# Altium footprint library CONNECTOR.PcbLib: 181 footprints (part 1 of 12)
Each footprint in its own frame and in the unit in brackets; x right, y up, seen from the top. Pads: shape width x height; smd on the part's side, far side on the other; paste and mask are expansions set on the pad; w line width, h text height; cw(c..) or ccw(c..) is an arc to the next point about the centre after c.
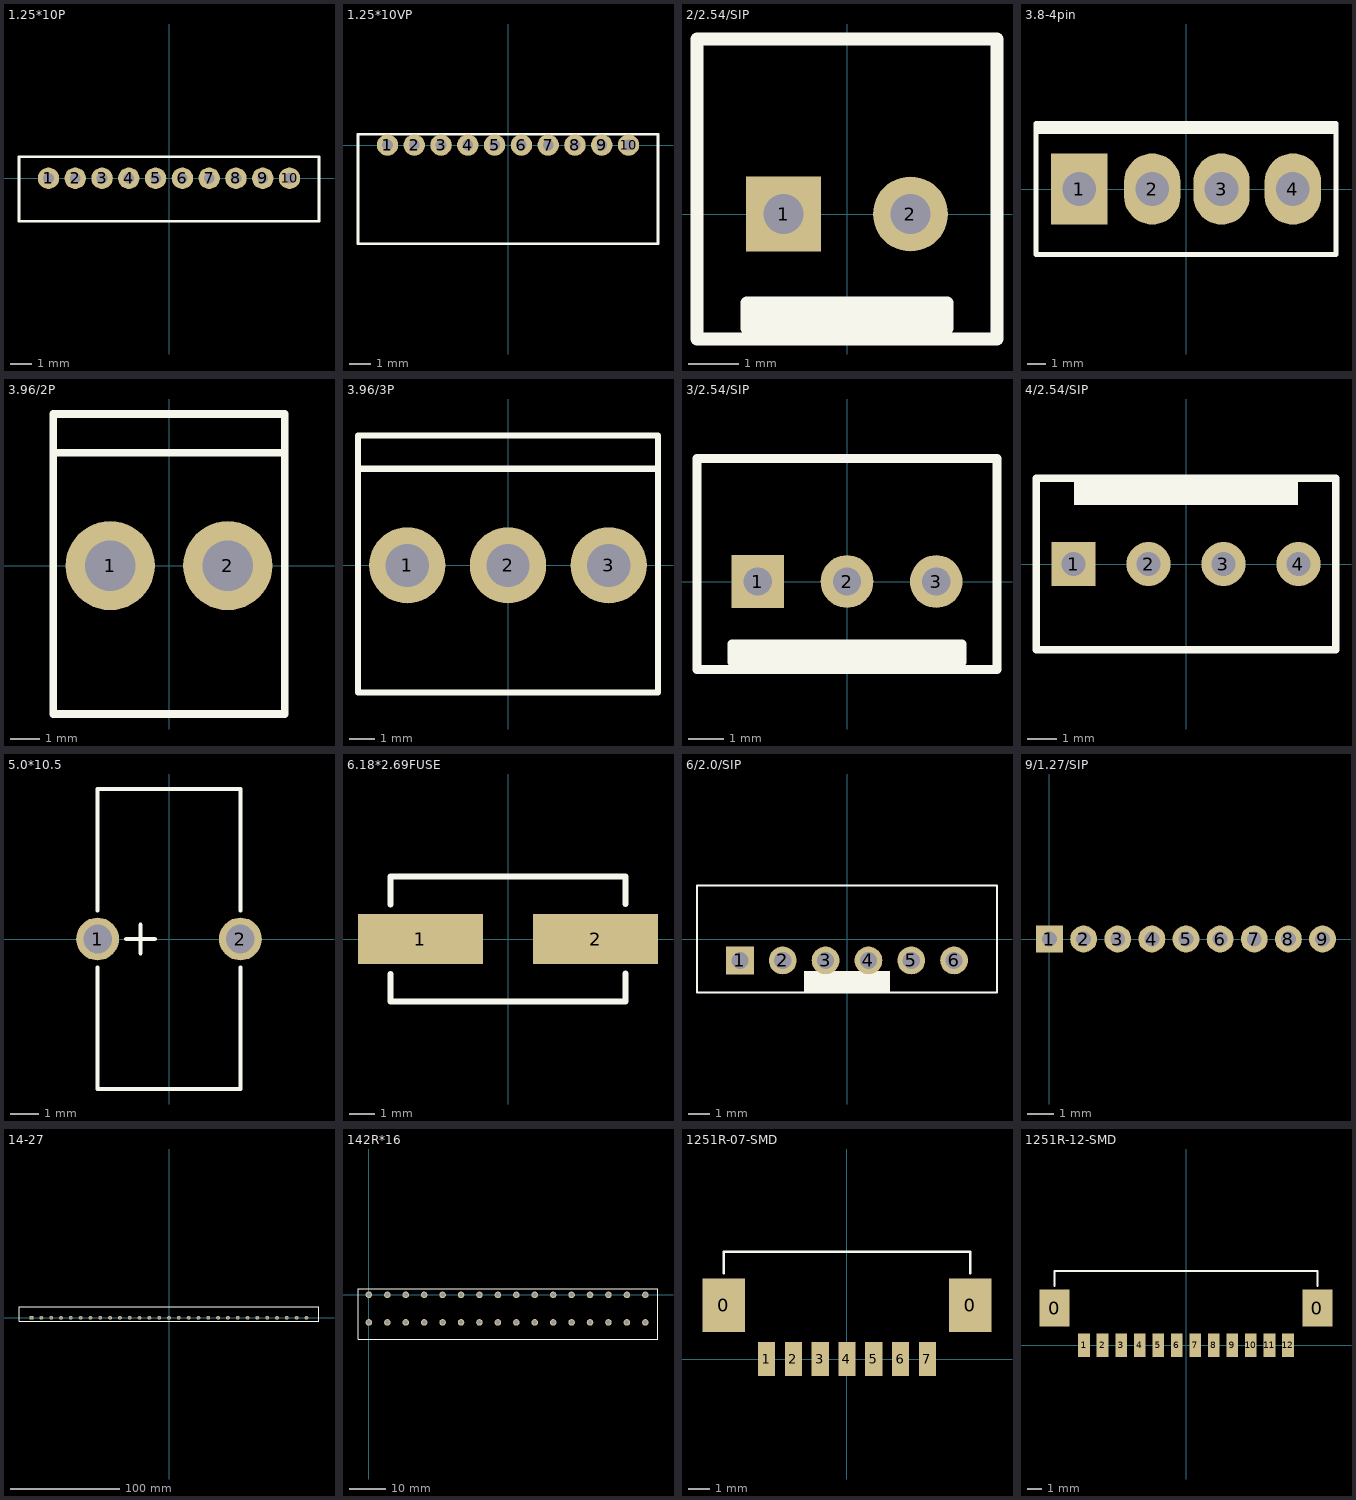
[diagram p0: the footprints below, top view; thin cyan lines are the x and y axes]

## 1.25*10P [mm]
height 4.6
pads (10):
  round 1 hole 0.5: 1(-5.625,0) 2(-4.375,0) 3(-3.125,0) 4(-1.875,0) 5(-0.625,0) 6(0.625,0) 7(1.875,0) 8(3.125,0) 9(4.375,0) 10(5.625,0)
Top Overlay:
  lines w0.127: -7,-2 7,-2 7,1 -7,1 -7,-2

## 1.25*10VP [mm]
height 3.3
pads (10):
  round 1 hole 0.5: 1(-5.625,0) 2(-4.375,0) 3(-3.125,0) 4(-1.875,0) 5(-0.625,0) 6(0.625,0) 7(1.875,0) 8(3.125,0) 9(4.375,0) 10(5.625,0)
Top Overlay:
  lines w0.127: -7,-4.6 7,-4.6 7,0.5 -7,0.5 -7,-4.6

## 2/2.54/SIP [mm]
height 11.5
pads (2):
  rect 1.5x1.5 hole 0.8: 1(-1.27,0)
  round 1.5 hole 0.8: 2(1.27,0)
Top Overlay:
  lines w0.254: -2,-2.032 2,-2.032 ; -3,-2.5 -3,3.5 3,3.5 3,-2.5 -3,-2.5 ; -2,-2.286 -2,-1.778 2,-1.778 2,-2.286 -2,-2.286

## 3.8-4pin [mm]
pads (4):
  rect 3x3.8 hole 1.8: 1(-5.7,0)
  oval 3x3.8 hole 1.8: 2(-1.8,0) 3(1.9,0) 4(5.7,0)
Top Overlay:
  lines w0.254: -8,3.048 8,3.048 ; -8,3.302 8,3.302 ; -8,-3.5 -8,3.5 8,3.5 8,-3.5 -8,-3.5

## 3.96/2P [mm]
height 13.97
pads (2):
  round 3 hole 1.7: 1(-1.98,0) 2(1.98,0)
Top Overlay:
  lines w0.254: -3.81,3.81 3.81,3.81 ; -3.9,-5 -3.9,5.11 3.9,5.11 3.9,-5 -3.9,-5

## 3.96/3P [mm]
height 13.97
pads (3):
  round 3 hole 1.7: 1(-3.96,0) 2(0,0) 3(3.96,0)
Top Overlay:
  lines w0.254: -5.9,3.81 5.9,3.81 ; -5.9,-5 5.9,-5 5.9,5.11 -5.9,5.11 -5.9,-5

## 3/2.54/SIP [mm]
height 11.5
pads (3):
  rect 1.5x1.5 hole 0.8: 1(-2.54,0)
  round 1.5 hole 0.8: 2(0,0) 3(2.54,0)
Top Overlay:
  lines w0.254: -3.27,-2.032 3.27,-2.032 ; -4.27,-2.5 4.27,-2.5 4.27,3.5 -4.27,3.5 -4.27,-2.5 ; -3.27,-2.286 3.27,-2.286 3.27,-1.778 -3.27,-1.778 -3.27,-2.286

## 4/2.54/SIP [mm] "wire to board"
height 11.25
pads (4):
  rect 1.5x1.5 hole 0.8: 1(-3.81,0)
  round 1.5 hole 0.8: 2(-1.27,0) 3(1.27,0) 4(3.81,0)
Top Overlay:
  rectangle: -3.8,2 3.8,2.9
  lines w0.254: -5.08,-2.9 -5.08,2.9 5.08,2.9 5.08,-2.9 -5.08,-2.9
3D body: height 11.85, standoff 0, extent -3.81,2.032 3.81,2.794
3D body: height 3.5, standoff 0, extent -5.08,-2.794 5.08,2.794

## 5.0*10.5 [mm] "SD series Panasonic gold capacitor"
height 11.5
pads (2):
  round 1.5 hole 1: 1(-2.5,0) 2(2.5,0)
Top Overlay:
  lines w0.152: -2.5,-1 -2.5,-5.25 2.5,-5.25 2.5,-1 ; -2.5,1 -2.5,5.25 2.5,5.25 2.5,1 ; -1.5,0 -0.5,0 ; -1,-0.5 -1,0.5

## 6.18*2.69FUSE [mm] "FUSE,6.18mm*2.69mm"
height 4
pads (2):
  rect 5x2 smd: 1(-3.5,0) 2(3.5,0)
Top Overlay:
  lines w0.254: -4.7,-1.398 -4.7,-2.5 4.7,-2.5 4.7,-1.396 ; -4.7,1.396 -4.7,2.5 4.7,2.5 4.7,1.398

## 6/2.0/SIP [mm] "2.00间距，白色，单排针座"
height 6.07
pads (6):
  rect 1.3x1.3 hole 0.8: 1(-5,-1)
  round 1.3 hole 0.8: 2(-3,-1) 3(-1,-1) 4(1,-1) 5(3,-1) 6(5,-1)
Top Overlay:
  rectangle: -2,-2.5 2,-1.5
  lines w0.102: -7,-2.5 -7,2.5 7,2.5 7,-2.5 -7,-2.5

## 9/1.27/SIP [mm] "单排1.27mm孔座"
height 4.3
pads (9):
  rect 1x1 hole 0.55: 1(0,0)
  round 1 hole 0.55: 2(1.27,0) 3(2.54,0) 4(3.81,0) 5(5.08,0) 6(6.35,0) 7(7.62,0) 8(8.89,0) 9(10.16,0)

## 14-27 [mm] "大洋壳体14-27接线端子"
height 31
pads (29):
  rect 3.5x3.5 hole 2: 1(-126,0)
  round 3.5 hole 2: 2(-117,0) 3(-108,0) 4(-99,0) 5(-90,0) 6(-81,0) 7(-72,0) 8(-63,0) 9(-54,0) 10(-45,0) 11(-36,0) 12(-27,0) 13(-18,0) 14(-9,0) 15(0,0) 16(9,0) 17(18,0) 18(27,0) 19(36,0) 20(45,0) 21(54,0) 22(63,0) 23(72,0) 24(81,0) 25(90,0) 26(99,0) 27(108,0) 28(117,0) 29(126,0)
Top Overlay:
  lines w0.254: -137.5,-3 -137.5,10 137.5,10 137.5,-3 -137.5,-3

## 142R*16 [mil] "接线端子"
pads (32):
  round 71 hole 48: 1(0,-300) 1(0,0) 2(200,-300) 2(200,-1) 3(400,-300) 3(400,-1) 4(600,-300) 4(600,-1) 5(800,-300) 5(800,-1) 6(1000,-300) 6(1000,-1) 7(1200,-300) 7(1200,-1) 8(1400,-1) 9(1400,-300) 9(1600,-300) 9(1600,-1) 10(1800,-300) 10(1800,-1) 11(2000,-300) 11(2000,-1) 12(2200,-300) 12(2200,-1) 13(2400,-300) 13(2400,-1) 14(2600,-300) 14(2600,-1) 15(2800,-300) 15(2800,-1) 16(3000,-300) 16(3000,-1)
Top Overlay:
  lines w10: -118.11,-484.25 3137.8,-484.25 3137.8,66.93 -118.11,66.93 -118.11,-484.25

## 1251R-07-SMD [mm]
height 4
pads (9):
  rect 2x2.5 smd: 0(-5.75,2.5) 0(5.75,2.5)
  rect 0.8x1.6 smd: 1(-3.75,0) 2(-2.5,0) 3(-1.25,0) 4(0,0) 5(1.25,0) 6(2.5,0) 7(3.75,0)
Top Overlay:
  lines w0.127: -5.75,4 -5.75,5 5.75,5 5.75,4

## 1251R-12-SMD [mm]
height 4
pads (14):
  rect 2x2.5 smd: 0(-8.875,2.5) 0(8.875,2.5)
  rect 0.8x1.6 smd: 1(-6.875,0) 2(-5.625,0) 3(-4.375,0) 4(-3.125,0) 5(-1.875,0) 6(-0.625,0) 7(0.625,0) 8(1.875,0) 9(3.125,0) 10(4.375,0) 11(5.625,0) 12(6.875,0)
Top Overlay:
  lines w0.127: -8.875,4 -8.875,5 8.875,5 8.875,4